# Altium schematic symbol library 691 244 600 0xx.SchLib: 2 symbols
Pins are listed as number, name and electrical type; pins without a type are passive.

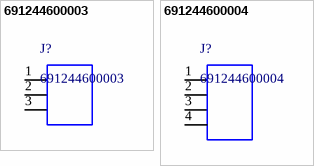
[diagram p0: symbols 691244600003 to 691244600004]

## 691244600003
designator J?
WR-TBL Vertical Cable Entry With Rising Cage Clamp,Serie 2446 - 10.16 mm; Manufacturer: Wurth Elektronik; ComponentLink1 Description: Manufacturer; ComponentLink2 Description: Datasheet; ComponentLink1URL: http://www.we-online.de; ComponentLink2URL: http://katalog.we-online.de/em/datasheet/6912446000xx.pdf; Created by: Baojun Chen; Created Date: 15.Sep.2015; partNo: 691244600003
footprint 691244600003 (Serie 2446 - 10.16 mm _ 3 pins)
pins: 1, 2, 3

## 691244600004
designator J?
WR-TBL Vertical Cable Entry With Rising Cage Clamp,Serie 2446 - 10.16 mm; Manufacturer: Wurth Elektronik; ComponentLink1 Description: Manufacturer; ComponentLink2 Description: Datasheet; ComponentLink1URL: http://www.we-online.de; ComponentLink2URL: http://katalog.we-online.de/em/datasheet/6912446000xx.pdf; Created by: Baojun Chen; Created Date: 15.Sep.2015; partNo: 691244600004
footprint 691244600004 (Serie 2446 - 10.16 mm _ 4 pins)
pins: 1, 2, 3, 4